# Altium schematic symbol library 1469TK015.SchLib: 1 symbol
Pins are listed as number, name and electrical type; pins without a type are passive.

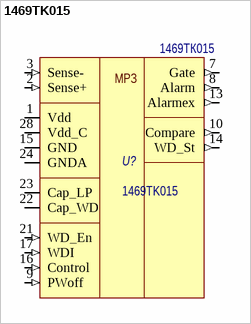
[diagram p0: symbol 1469TK015]

## 1469TK015
designator U?  Наименование: 1469ТК015
Микросхема радиационной защиты; Назначение: Микросхема защиты от тиристорного эффекта; ComponentLink1Description: DataSheet
footprint 5123.28-1 (QFN, 28-Leads, Body 6,50x6,50mm, Pitch 0,70mm, IPC Medium Density)
pins: 1 Vdd (power), 2 Sense+ (in), 3 Sense- (in), 7 Gate (out), 8 Alarm (out), 9 PWoff (in), 10 Compare (out), 13 Alarmex (out), 14 WD_St (out), 15 GND (power), 16 Control (in), 17 WDI (in), 21 WD_En (in), 22 Cap_WD (io), 23 Cap_LP (io), 24 GNDA, 28 Vdd_C (power)
text: МРЗ